# EAGLE library part CUSTOM_TPS65217X (library Dipper-digi-v0.1)
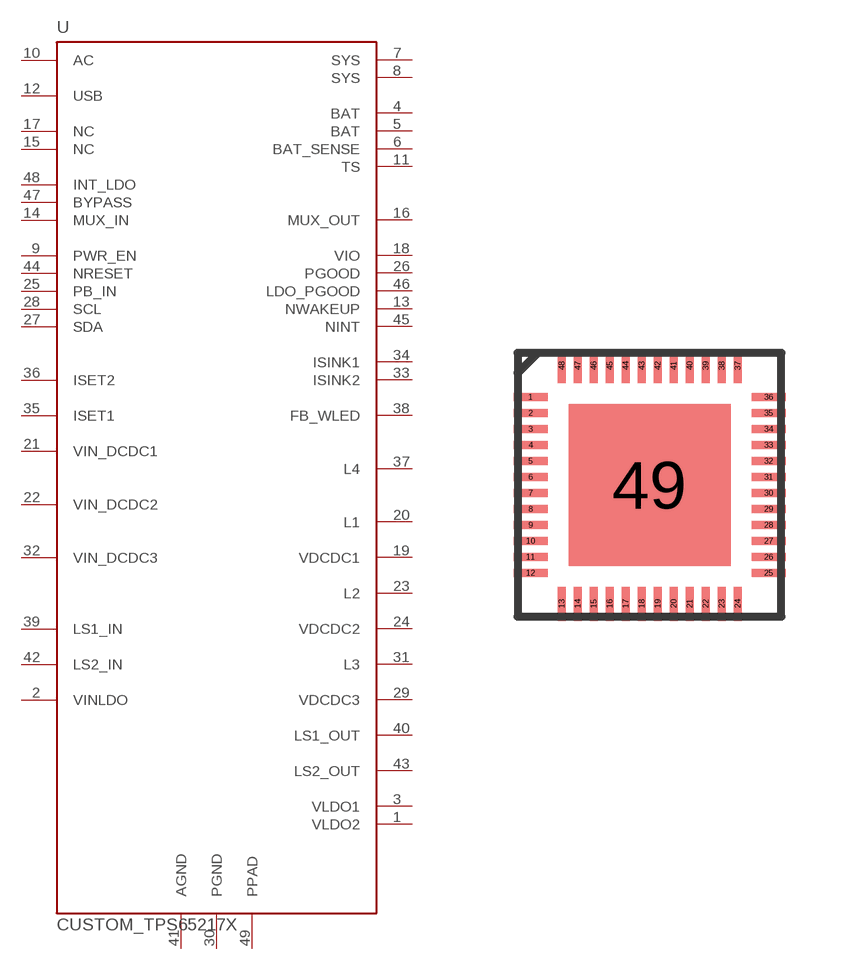
[diagram p6: symbol with the pads of CUSTOM_PVQFN48; footprint CUSTOM_PVQFN48]

Designator prefix -

## CUSTOM_TPS65217XRSLT  [CUSTOM_PVQFN48]
1  VLDO2  pas
2  VINLDO  pas
3  VLDO1  pas
4  BAT  pas
5  BAT  pas
6  BAT_SENSE  pas
7  SYS  pas
8  SYS  pas
9  PWR_EN  pas
10  AC  pas
11  TS  pas
12  USB  pas
13  NWAKEUP  pas
14  MUX_IN  pas
15  NC  pas
16  MUX_OUT  pas
17  NC  pas
18  VIO  pas
19  VDCDC1  pas
20  L1  pas
21  VIN_DCDC1  pas
22  VIN_DCDC2  pas
23  L2  pas
24  VDCDC2  pas
25  PB_IN  pas
26  PGOOD  pas
27  SDA  pas
28  SCL  pas
29  VDCDC3  pas
30  PGND  pas
31  L3  pas
32  VIN_DCDC3  pas
33  ISINK2  pas
34  ISINK1  pas
35  ISET1  pas
36  ISET2  pas
37  L4  pas
38  FB_WLED  pas
39  LS1_IN  pas
40  LS1_OUT  pas
41  AGND  pas
42  LS2_IN  pas
43  LS2_OUT  pas
44  NRESET  pas
45  NINT  pas
46  LDO_PGOOD  pas
47  BYPASS  pas
48  INT_LDO  pas
49  PPAD  pas

## Footprint CUSTOM_PVQFN48 (pad centres in mm)
PVQFN48 Auto generated by make-symbol-device-package-bsdl.ulp Rev. 34
smd 0.85 x 0.2: 1 -2.975,2.2; 2 -2.975,1.8; 3 -2.975,1.4; 4 -2.975,1; 5 -2.975,0.6; 6 -2.975,0.2; 7 -2.975,-0.2; 8 -2.975,-0.6; 9 -2.975,-1; 10 -2.975,-1.4; 11 -2.975,-1.8; 12 -2.975,-2.2; 25 2.975,-2.2; 26 2.975,-1.8; 27 2.975,-1.4; 28 2.975,-1; 29 2.975,-0.6; 30 2.975,-0.2; 31 2.975,0.2; 32 2.975,0.6; 33 2.975,1; 34 2.975,1.4; 35 2.975,1.8; 36 2.975,2.2
smd 0.2 x 0.85: 13 -2.2,-2.975; 14 -1.8,-2.975; 15 -1.4,-2.975; 16 -1,-2.975; 17 -0.6,-2.975; 18 -0.2,-2.975; 19 0.2,-2.975; 20 0.6,-2.975; 21 1,-2.975; 22 1.4,-2.975; 23 1.8,-2.975; 24 2.2,-2.975; 37 2.2,2.975; 38 1.8,2.975; 39 1.4,2.975; 40 1,2.975; 41 0.6,2.975; 42 0.2,2.975; 43 -0.2,2.975; 44 -0.6,2.975; 45 -1,2.975; 46 -1.4,2.975; 47 -1.8,2.975; 48 -2.2,2.975
smd 4.05 x 4.05: 49 0,0